# Altium schematic symbol library 2N7002 7002.Schlib: 1 symbol
Pins are listed as number, name and electrical type; pins without a type are passive.

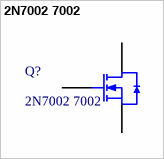
[diagram p0: symbol 2N7002 7002]

## 2N7002 7002
designator Q?
MOS(场效应管)
footprint SOT-23(SOT-23-3)
pins: 1 G, 2 S, 3 D